# Altium footprint library ESP-01M_V1.0.PcbLib: 1 footprints
Each footprint in its own frame and in the unit in brackets; x right, y up, seen from the top. Pads: shape width x height; smd on the part's side, far side on the other; paste and mask are expansions set on the pad; w line width, h text height; cw(c..) or ccw(c..) is an arc to the next point about the centre after c.
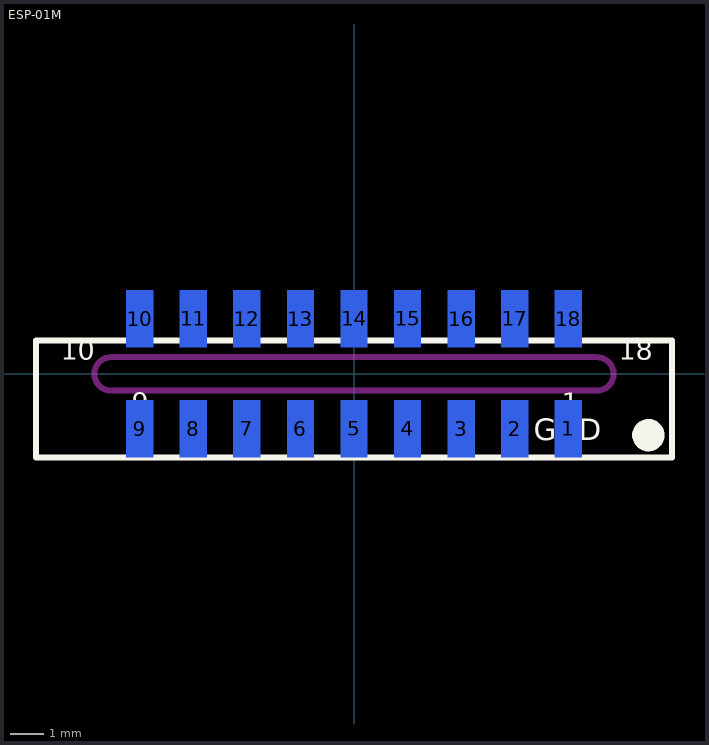
[diagram p0: the footprint, top view; thin cyan lines are the x and y axes]

## ESP-01M [mm]
pads (18):
  rect 0.8x1.7 smd far side: 1(6.4,-1.643) 2(4.8,-1.643) 3(3.2,-1.643) 4(1.6,-1.643) 5(0,-1.643) 6(-1.6,-1.643) 7(-3.2,-1.643) 8(-4.8,-1.643) 9(-6.4,-1.643) 10(-6.4,1.643) 11(-4.8,1.643) 12(-3.2,1.643) 13(-1.6,1.643) 14(0,1.643) 15(1.6,1.643) 16(3.2,1.643) 17(4.8,1.643) 18(6.4,1.643)
Top Overlay:
  circle w0.5: c8.788,-1.829 r0.234
  lines w0.178: -9.5,-2.5 -9.5,1 9.5,1 9.5,-2.5 -9.5,-2.5
  text "18" at 7.899,0.229 h1
  text "10" at -8.763,0.229 h1
  text "9" at -6.629,-1.346 h1
  text "1" at 6.198,-1.346 h1
  text "GND" at 5.359,-2.21 h1.1
Keep-Out Layer:
  lines w0.178: -7.75,-0.008 ccw(c-7.254,-0.004) -7.25,-0.5 7.25,-0.5 ccw(c7.254,-0.004) 7.75,-0.008 ; -7.75,0.008 cw(c-7.254,0.004) -7.25,0.5 7.25,0.5 cw(c7.254,0.004) 7.75,0.008